# Altium schematic symbol library Optocouplers.SchLib: 13 symbols
Pins are listed as number, name and electrical type; pins without a type are passive.

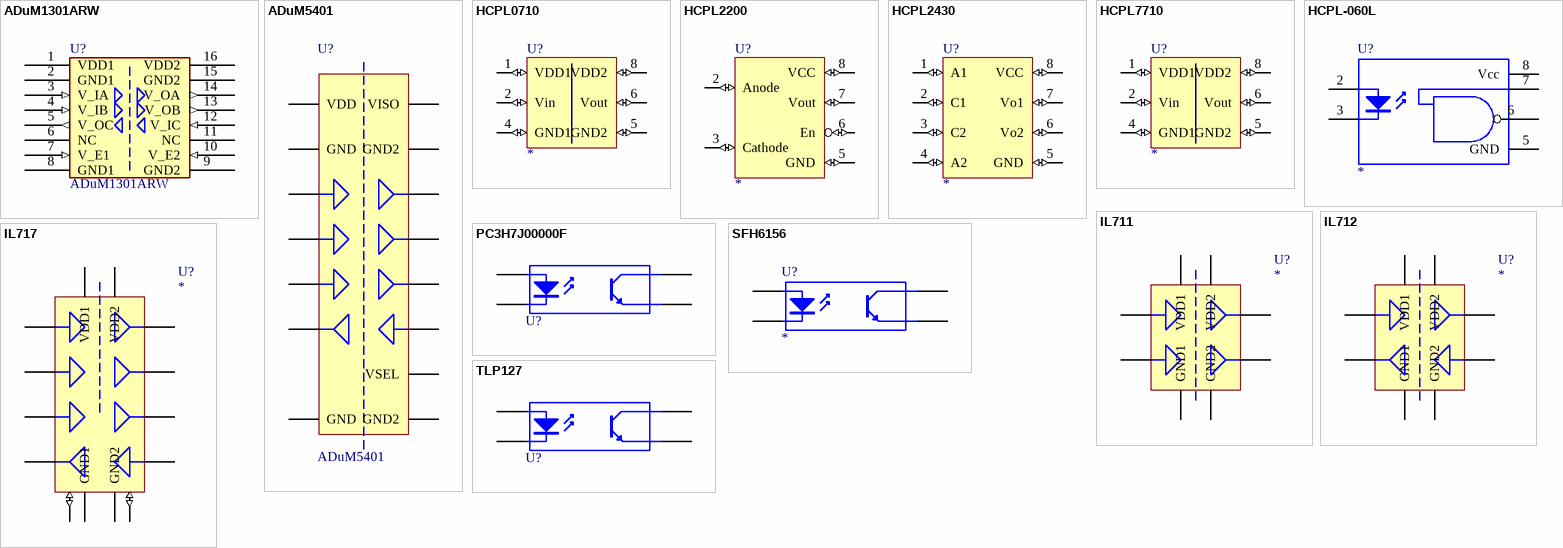
[diagram p0: symbols ADuM1301ARW to TLP127]

## ADuM1301ARW
designator U?
3 CHANNEL DIGITAL ISOLATOR
footprint SSOP16/RW16 (16-Lead Standard Small Outline Package [SOIC] Wide Body (RW-16))
pins: 1 VDD1 (power), 2 GND1 (power), 3 V_IA (in), 4 V_IB (in), 5 V_OC (out), 6 NC, 7 V_E1 (in), 8 GND1 (power), 9 GND2 (power), 10 V_E2 (in), 11 NC, 12 V_IC (in), 13 V_OB (out), 14 V_OA (out), 15 GND2 (power), 16 VDD2 (power)

## ADuM5401
designator U?
Isolator w/ DCDC; Digikey: ADUM5401ARWZ-ND
footprint SOIC_W16
pins: 1 VDD, 2 GND, 3 IN1, 4 IN2, 5 IN3, 6 OUT4, 8 GND, 9 GND2, 10 VSEL, 11 IN4, 12 OUT3, 13 OUT2, 14 OUT1, 15 GND2, 16 VISO

## HCPL0710
designator U?
High speed Optocoupler
footprint SO8
pins: 1 VDD1 (io), 2 Vin (io), 4 GND1 (io), 5 GND2 (io), 6 Vout (io), 8 VDD2 (io)

## HCPL2200
designator U?
Low Power Optocoupler
footprint DIP-8
pins: 2 Anode (io), 3 Cathode (io), 5 GND (io), 6 En (io), 7 Vout (io), 8 VCC (io)

## HCPL2430
designator U?
High speed Optocoupler
footprint DIP-8
pins: 1 A1 (io), 2 C1 (io), 3 C2 (io), 4 A2 (io), 5 GND (io), 6 Vo2 (io), 7 Vo1 (io), 8 VCC (io)

## HCPL7710
designator U?
High speed Optocoupler
footprint DIP-8
pins: 1 VDD1 (io), 2 Vin (io), 4 GND1 (io), 5 GND2 (io), 6 Vout (io), 8 VDD2 (io)

## HCPL-060L
designator U?
HCPL 060L 3.3V High Speed Optocoupler
footprint SO8
pins: 2 A, 3 K, 5 GND, 6 Vo, 7 VE, 8 Vcc

## IL711
designator U?
IL711 Optical Isolator
footprint SO8
pins: 1 VDD1, 2 IN1, 3 IN2, 4 GND1, 5 GND2, 6 OUT2, 7 OUT1, 8 VDD2

## IL712
designator U?
IL712 Optical Isolator
footprint SO8
pins: 1 VDD1, 2 IN1, 3 OUT2, 4 GND1, 5 GND2, 6 IN2, 7 OUT1, 8 VDD2

## IL717
designator U?
Isoloop IL717 - www.nve.com
footprint SO16
pins: 1 VDD1, 2 GND1, 3 IN1, 4 IN2, 5 IN3, 6 OUT4, 8 GND1 (io), 9 GND2 (io), 11 IN4, 12 OUT3, 13 OUT2, 14 OUT1, 15 GND2, 16 VDD2

## PC3H7J00000F
designator U?  (value not drawn)
Opto-coupler; Farnell: 9707603; Price: 0.6
footprint PC3H7
pins: 1 A, 2 K, 3 E, 4 C

## SFH6156
designator U?
881; Text Field1: 881-892; Text Field2: 1.65; Text Field3: Farnell
footprint SFH6156
pins: 1 A, 2 K, 3 E, 4 C

## TLP127
designator U?  (value not drawn)
Opto-coupler; Farnell: 623933; Price: 2.41
footprint TLP127
pins: 1 A, 3 K, 4 E, 6 C